# Altium integrated library Infineon_Power_Silicon_Carbide_(SiC).IntLib: 74 symbols (part 3 of 3)
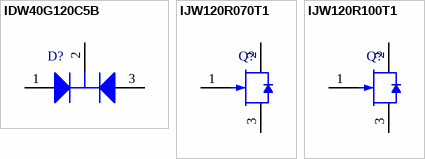
[diagram p4: symbols IDW40G120C5B to IJW120R100T1]

## IJW120R100T1
designator Q?
Silicon Carbide JFET, 1200 V VDS, -55 to 175 degC, PG-TO247-3, Tube, Green; Manufacturer: Infineon; PartNumber: IJW120R100T1; Co(er): 89 pF; Co(tr): 112 pF; Eoss(typ): 28 uJ; Green: TRUE; ID (max): 26 A; IDpuls (max): 78 A; Irrm (typ): 11 A; Ptot (max): 190 W; Qg(typ): 72 nC; Qrr (typ): 118 nC; RDS (on) max: 0.1 Ohm; Rth: 0.78 K/W; VDS (max): 1,200 V; VGS(th) (min): -15 V; VGS(th)(max): -12 V; DatasheetVersion: Rev. 2.0; PackageVersion: Rev. 05, 07/2010; PackageReference: PG-TO247-3-44_A; PackageDescription: 3-Pin Plastic (Green) Transistor Single Outline Package, 15.915 x 20.95 mm Body, 5.44 mm Pitch; Supplier 1: Mouser; Supplier Part Number 1: N/A; Halogen-free: TRUE; Mounting: THT; Packing: Tube; Mounting Technology: Through Hole; ComponentLink1Description: Manufacturer URL; ComponentLink1URL: http://www.infineon.com/; ComponentLink2Description: Datasheet; ComponentLink2URL: http://www.infineon.com/dgdl/IJW120R100T1-final+datasheet+2+0.pdf?folderId=db3a304341e0aed0014203508c870e38&fileId=db3a304341e0aed001420353f03a0e4b; ComponentLink3Description: Package Specification; ComponentLink3URL: http://www.infineon.com/dgdl/IJW120R070T1-final+datasheet+2+0.pdf?folderId=db3a304341e0aed0014203508c870e38&fileId=db3a304341e0aed0014203597c420ec5
footprint INF-PG-TO247-3-44_A (FM, 3-Leads, Body 15.915x5.02mm, Pitch 5.44mm)
pins: 1 G, 2 D, 3 S